# Altium footprint library Control_Board.PcbLib: 5 footprints
Each footprint in its own frame and in the unit in brackets; x right, y up, seen from the top. Pads: shape width x height; smd on the part's side, far side on the other; paste and mask are expansions set on the pad; w line width, h text height; cw(c..) or ccw(c..) is an arc to the next point about the centre after c.
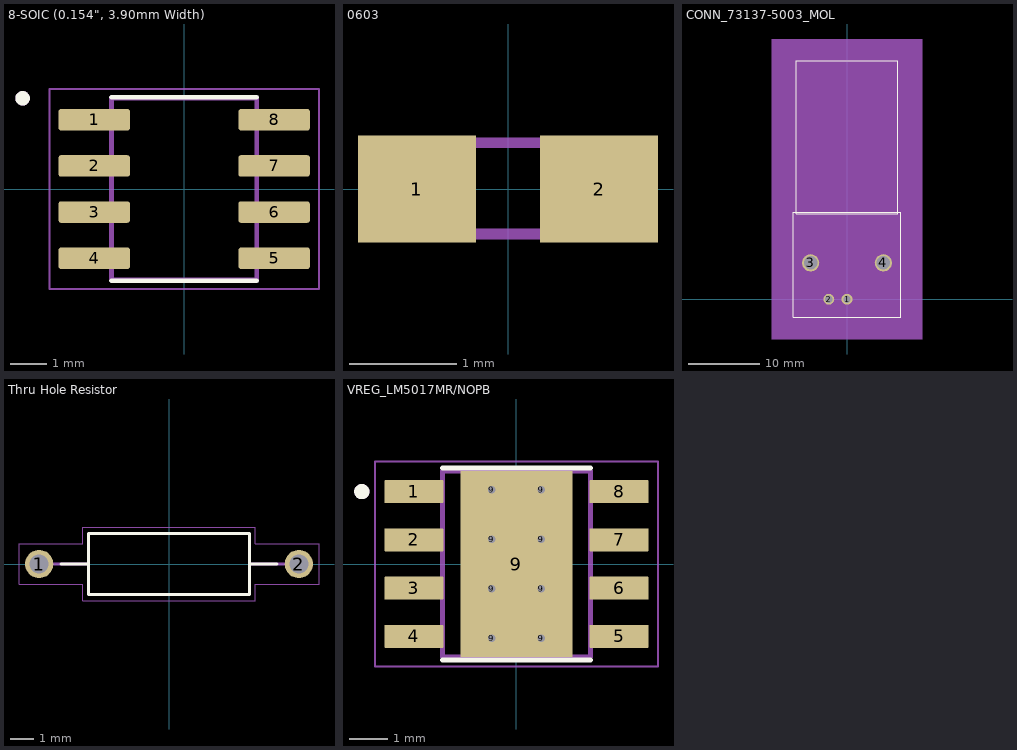
[diagram p0: the footprints below, top view; thin cyan lines are the x and y axes]

## 8-SOIC (0.154", 3.90mm Width) [mm]
pads (8):
  rrect25% 1.97x0.59 smd: 1(-2.475,1.905) 2(-2.475,0.635) 3(-2.475,-0.635) 4(-2.475,-1.905) 5(2.475,-1.905) 6(2.475,-0.635) 7(2.475,0.635) 8(2.475,1.905)
Top Overlay:
  circle w0.2: c-4.445,2.495 r0.1
  lines w0.127: -2,-2.52 2,-2.52 ; -2,2.52 2,2.52
Mechanical 13:
  circle w0.2: c-4.445,2.495 r0.1
  lines w0.127: -2,-2.5 2,-2.5 2,2.5 -2,2.5 -2,-2.5
Mechanical 15:
  lines w0.05: -3.71,-2.75 3.71,-2.75 3.71,2.75 -3.71,2.75 -3.71,-2.75
3D body "step_temp.STEP": height 1.75, standoff 0, extent -3,-2.45 3,2.45

## 0603 [mm]
pads (2):
  rect 1.1x1 smd: 1(-0.85,0) 2(0.85,0)
Mechanical 13:
  region: -0.338,-0.471 -0.84,-0.471 -0.84,0.48 -0.338,0.48
  region: 0.83,-0.471 0.331,-0.471 0.331,0.48 0.83,0.48
  lines w0.102: -0.356,-0.419 0.356,-0.419 ; -0.356,0.432 0.356,0.432

## CONN_73137-5003_MOL [mil]
pads (4):
  round 60 hole 40 mask+0: 1(0,0) 2(-100,0)
  round 95 hole 75: 3(-200,200) 4(200,200)
Top Overlay:
  lines w6: -295.5,-98.98 -295.5,479.02 295.5,479.02 295.5,-98.98 -295.5,-98.98 ; -278.5,469.02 -278.5,1312.02 278.5,1312.02 278.5,469.02 -278.5,469.02
  text "*" at -112.5,-25 h50
Mechanical 5:
  region: -415.5,1432.02 415.5,1432.02 415.5,-218.98 -415.5,-218.98
Mechanical 13:
  lines w1: -290.5,-93.98 -290.5,474.02 290.5,474.02 290.5,-93.98 -290.5,-93.98 ; -273.5,474.02 -273.5,1307.02 273.5,1307.02 273.5,474.02 -273.5,474.02
  text "*" at -112.5,-25 h50
Mechanical 15:
  region: 300.5,-103.98 300.5,1317.02 -300.5,1317.02 -300.5,-103.98
  lines w6: -300.5,-103.98 300.5,-103.98 300.5,1317.02 -300.5,1317.02 -300.5,-103.98
3D body: height 10, standoff 0, extent 0,0 10,10
3D body "0731375003--3DModel-STEP-56544.STEP": height 521.06, standoff -162.01, extent -290.55,-80 290.55,1305.04

## Thru Hole Resistor [mm]
pads (2):
  round 1.2 hole 0.8: 1(-5.5,0) 2(5.5,0)
Top Overlay:
  lines w0.127: -4.58,0 -3.4,0 ; 4.58,0 3.4,0 ; -3.4,0 -3.4,-1.3 3.4,-1.3 3.4,0 ; -3.4,0 -3.4,1.3 3.4,1.3 3.4,0
Mechanical 13:
  lines w0.127: -4.9,0 -3.4,0 ; 4.9,0 3.4,0 ; -3.4,0 -3.4,-1.3 3.4,-1.3 3.4,0 ; -3.4,0 -3.4,1.3 3.4,1.3 3.4,0
Mechanical 15:
  lines w0.05: -6.35,-0.85 -6.35,0.85 -3.65,0.85 -3.65,1.55 3.65,1.55 3.65,0.85 6.35,0.85 6.35,-0.85 3.65,-0.85 3.65,-1.55 -3.65,-1.55 -3.65,-0.85 -6.35,-0.85
3D body "step_temp.STEP": height 2.6, standoff -25.52, extent -5.775,-1.3 5.775,1.3

## VREG_LM5017MR/NOPB [mm]
pads (17):
  rrect5% 1.55x0.6 smd mask+0: 1(-2.7,1.905) 2(-2.7,0.635) 3(-2.7,-0.635) 4(-2.7,-1.905) 5(2.7,-1.905) 6(2.7,-0.635) 7(2.7,0.635) 8(2.7,1.905)
  round 0.3 hole 0.2: 9(-0.65,-1.95) 9(-0.65,-0.65) 9(-0.65,0.65) 9(-0.65,1.95) 9(0.65,-1.95) 9(0.65,-0.65) 9(0.65,0.65) 9(0.65,1.95)
  rect 2.95x4.9 smd paste-3 mask+0: 9(0,0)
Top Overlay:
  circle w0.2: c-4.07,1.905 r0.1
  lines w0.127: -1.95,-2.525 1.95,-2.525 ; -1.95,2.525 1.95,2.525
Top Paste:
  region: 1.355,-1.7 -1.355,-1.7 -1.355,1.7 1.355,1.7
Top Solder:
  drawing of 9 lines, arcs and shapes, not listed
Mechanical 13:
  circle w0.2: c-4.07,1.905 r0.1
  lines w0.127: -1.95,-2.45 -1.95,2.45 1.95,2.45 1.95,-2.45 -1.95,-2.45
Mechanical 15:
  lines w0.05: -3.725,-2.7 -3.725,2.7 3.725,2.7 3.725,-2.7 -3.725,-2.7